# Altium schematic symbol library KRM55WR72A226MH01L.SchLib: 2 symbols
Pins are listed as number, name and electrical type; pins without a type are passive.

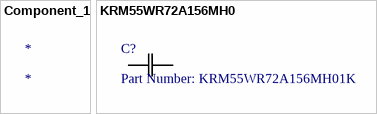
[diagram p0: symbols Component_1 to KRM55WR72A156MH0]

## Component_1
designator *

## KRM55WR72A156MH0
designator C?, comment Part Number: KRM55WR72A156MH01K
No Description Available; Vendor: Murata; Built_By: EMA_UL_Team; Type: DEV; Manufacturer_Part_Number: KRM55WR72A156MH01K; Copyright: Copyright (C) 2018 Accelerated Designs. All rights reserved; RefDes: RefDes; Value: Value
footprint G-55
pins: 1, 2